# EAGLE library part XC3S200-TQ144 (library XC3S200-TQ144)
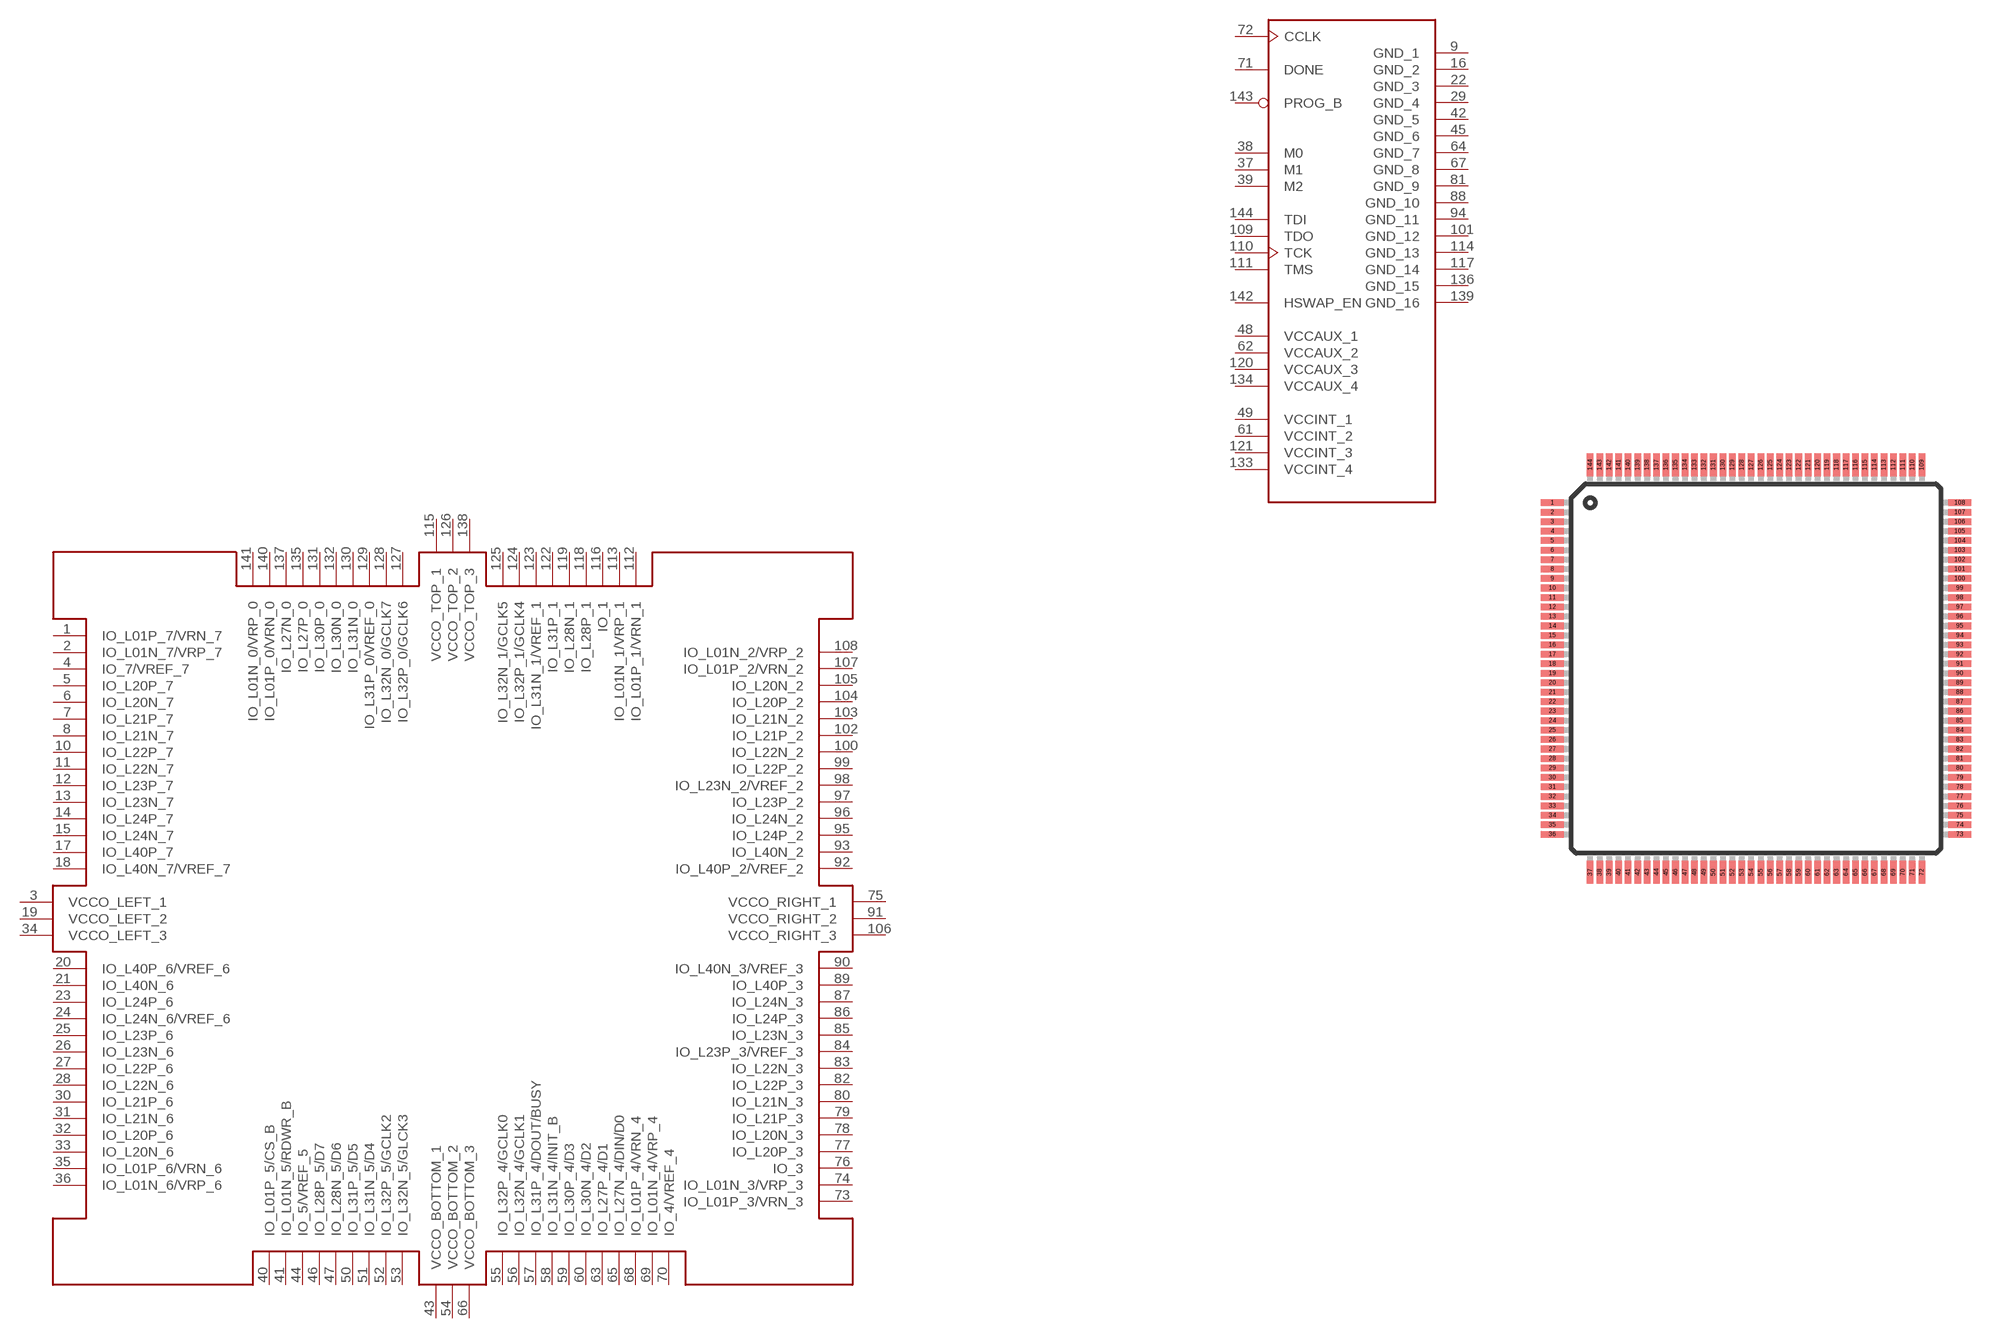
[diagram p0: symbol with the pads of TQ144; footprint TQ144]

Designator prefix -

## XC3S200-TQ144  [TQ144]
1  IO_L01P_7/VRN_7
2  IO_L01N_7/VRP_7
3  VCCO_LEFT_1  pwr
4  IO_7/VREF_7
5  IO_L20P_7
6  IO_L20N_7
7  IO_L21P_7
8  IO_L21N_7
9  GND_1  pwr
10  IO_L22P_7
11  IO_L22N_7
12  IO_L23P_7
13  IO_L23N_7
14  IO_L24P_7
15  IO_L24N_7
16  GND_2  pwr
17  IO_L40P_7
18  IO_L40N_7/VREF_7
19  VCCO_LEFT_2  pwr
20  IO_L40P_6/VREF_6
21  IO_L40N_6
22  GND_3  pwr
23  IO_L24P_6
24  IO_L24N_6/VREF_6
25  IO_L23P_6
26  IO_L23N_6
27  IO_L22P_6
28  IO_L22N_6
29  GND_4  pwr
30  IO_L21P_6
31  IO_L21N_6
32  IO_L20P_6
33  IO_L20N_6
34  VCCO_LEFT_3  pwr
35  IO_L01P_6/VRN_6
36  IO_L01N_6/VRP_6
37  M1  in
38  M0  in
39  M2  in
40  IO_L01P_5/CS_B
41  IO_L01N_5/RDWR_B
42  GND_5  pwr
43  VCCO_BOTTOM_1  pwr
44  IO_5/VREF_5
45  GND_6  pwr
46  IO_L28P_5/D7
47  IO_L28N_5/D6
48  VCCAUX_1  pwr
49  VCCINT_1  pwr
50  IO_L31P_5/D5
51  IO_L31N_5/D4
52  IO_L32P_5/GCLK2
53  IO_L32N_5/GLCK3
54  VCCO_BOTTOM_2  pwr
55  IO_L32P_4/GCLK0
56  IO_L32N_4/GCLK1
57  IO_L31P_4/DOUT/BUSY
58  IO_L31N_4/INIT_B
59  IO_L30P_4/D3
60  IO_L30N_4/D2
61  VCCINT_2  pwr
62  VCCAUX_2  pwr
63  IO_L27P_4/D1
64  GND_7  pwr
65  IO_L27N_4/DIN/D0
66  VCCO_BOTTOM_3  pwr
67  GND_8  pwr
68  IO_L01P_4/VRN_4
69  IO_L01N_4/VRP_4
70  IO_4/VREF_4
71  DONE
72  CCLK
73  IO_L01P_3/VRN_3
74  IO_L01N_3/VRP_3
75  VCCO_RIGHT_1  pwr
76  IO_3
77  IO_L20P_3
78  IO_L20N_3
79  IO_L21P_3
80  IO_L21N_3
81  GND_9  pwr
82  IO_L22P_3
83  IO_L22N_3
84  IO_L23P_3/VREF_3
85  IO_L23N_3
86  IO_L24P_3
87  IO_L24N_3
88  GND_10  pwr
89  IO_L40P_3
90  IO_L40N_3/VREF_3
91  VCCO_RIGHT_2  pwr
92  IO_L40P_2/VREF_2
93  IO_L40N_2
94  GND_11  pwr
95  IO_L24P_2
96  IO_L24N_2
97  IO_L23P_2
98  IO_L23N_2/VREF_2
99  IO_L22P_2
100  IO_L22N_2
101  GND_12  pwr
102  IO_L21P_2
103  IO_L21N_2
104  IO_L20P_2
105  IO_L20N_2
106  VCCO_RIGHT_3  pwr
107  IO_L01P_2/VRN_2
108  IO_L01N_2/VRP_2
109  TDO  out
110  TCK  in
111  TMS  in
112  IO_L01P_1/VRN_1
113  IO_L01N_1/VRP_1
114  GND_13  pwr
115  VCCO_TOP_1  pwr
116  IO_1
117  GND_14  pwr
118  IO_L28P_1
119  IO_L28N_1
120  VCCAUX_3  pwr
121  VCCINT_3  pwr
122  IO_L31P_1
123  IO_L31N_1/VREF_1
124  IO_L32P_1/GCLK4
125  IO_L32N_1/GCLK5
126  VCCO_TOP_2  pwr
127  IO_L32P_0/GCLK6
128  IO_L32N_0/GCLK7
129  IO_L31P_0/VREF_0
130  IO_L31N_0
131  IO_L30P_0
132  IO_L30N_0
133  VCCINT_4  pwr
134  VCCAUX_4  pwr
135  IO_L27P_0
136  GND_15  pwr
137  IO_L27N_0
138  VCCO_TOP_3  pwr
139  GND_16  pwr
140  IO_L01P_0/VRN_0
141  IO_L01N_0/VRP_0
142  HSWAP_EN  in
143  PROG_B  in
144  TDI  in

## Footprint TQ144 (pad centres in mm)
smd 1.2 x 0.35: 1 -10.75,8.75; 2 -10.75,8.25; 3 -10.75,7.75; 4 -10.75,7.25; 5 -10.75,6.75; 6 -10.75,6.25; 7 -10.75,5.75; 8 -10.75,5.25; 9 -10.75,4.75; 10 -10.75,4.25; 11 -10.75,3.75; 12 -10.75,3.25; 13 -10.75,2.75; 14 -10.75,2.25; 15 -10.75,1.75; 16 -10.75,1.25; 17 -10.75,0.75; 18 -10.75,0.25; 19 -10.75,-0.25; 20 -10.75,-0.75; 21 -10.75,-1.25; 22 -10.75,-1.75; 23 -10.75,-2.25; 24 -10.75,-2.75; 25 -10.75,-3.25; 26 -10.75,-3.75; 27 -10.75,-4.25; 28 -10.75,-4.75; 29 -10.75,-5.25; 30 -10.75,-5.75; 31 -10.75,-6.25; 32 -10.75,-6.75; 33 -10.75,-7.25; 34 -10.75,-7.75; 35 -10.75,-8.25; 36 -10.75,-8.75; 73 10.75,-8.75; 74 10.75,-8.25; 75 10.75,-7.75; 76 10.75,-7.25; 77 10.75,-6.75; 78 10.75,-6.25; 79 10.75,-5.75; 80 10.75,-5.25; 81 10.75,-4.75; 82 10.75,-4.25; 83 10.75,-3.75; 84 10.75,-3.25; 85 10.75,-2.75; 86 10.75,-2.25; 87 10.75,-1.75; 88 10.75,-1.25; 89 10.75,-0.75; 90 10.75,-0.25; 91 10.75,0.25; 92 10.75,0.75; 93 10.75,1.25; 94 10.75,1.75; 95 10.75,2.25; 96 10.75,2.75; 97 10.75,3.25; 98 10.75,3.75; 99 10.75,4.25; 100 10.75,4.75; 101 10.75,5.25; 102 10.75,5.75; 103 10.75,6.25; 104 10.75,6.75; 105 10.75,7.25; 106 10.75,7.75; 107 10.75,8.25; 108 10.75,8.75
smd 0.35 x 1.2: 37 -8.75,-10.75; 38 -8.25,-10.75; 39 -7.75,-10.75; 40 -7.25,-10.75; 41 -6.75,-10.75; 42 -6.25,-10.75; 43 -5.75,-10.75; 44 -5.25,-10.75; 45 -4.75,-10.75; 46 -4.25,-10.75; 47 -3.75,-10.75; 48 -3.25,-10.75; 49 -2.75,-10.75; 50 -2.25,-10.75; 51 -1.75,-10.75; 52 -1.25,-10.75; 53 -0.75,-10.75; 54 -0.25,-10.75; 55 0.25,-10.75; 56 0.75,-10.75; 57 1.25,-10.75; 58 1.75,-10.75; 59 2.25,-10.75; 60 2.75,-10.75; 61 3.25,-10.75; 62 3.75,-10.75; 63 4.25,-10.75; 64 4.75,-10.75; 65 5.25,-10.75; 66 5.75,-10.75; 67 6.25,-10.75; 68 6.75,-10.75; 69 7.25,-10.75; 70 7.75,-10.75; 71 8.25,-10.75; 72 8.75,-10.75; 109 8.75,10.75; 110 8.25,10.75; 111 7.75,10.75; 112 7.25,10.75; 113 6.75,10.75; 114 6.25,10.75; 115 5.75,10.75; 116 5.25,10.75; 117 4.75,10.75; 118 4.25,10.75; 119 3.75,10.75; 120 3.25,10.75; 121 2.75,10.75; 122 2.25,10.75; 123 1.75,10.75; 124 1.25,10.75; 125 0.75,10.75; 126 0.25,10.75; 127 -0.25,10.75; 128 -0.75,10.75; 129 -1.25,10.75; 130 -1.75,10.75; 131 -2.25,10.75; 132 -2.75,10.75; 133 -3.25,10.75; 134 -3.75,10.75; 135 -4.25,10.75; 136 -4.75,10.75; 137 -5.25,10.75; 138 -5.75,10.75; 139 -6.25,10.75; 140 -6.75,10.75; 141 -7.25,10.75; 142 -7.75,10.75; 143 -8.25,10.75; 144 -8.75,10.75